# Altium integrated library PC817X2NIP0F.IntLib: 1 symbol
Pins are listed as number, name and electrical type; pins without a type are passive.

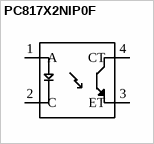
[diagram p0: symbol PC817X2NIP0F]

## PC817X2NIP0F
designator U?  (value not drawn)
PC817 Series 1 Channel 80 V 5000 Vrms General Purpose Photocoupler - DIP-4; MF: Sharp Microelectronics; Availability: Good; Price: 0.30 USD; Package: PDIP-4 Sharp Microelectronics; MP: PC817X2NIP0F; Value: *
footprint SOT254P975X400-4N
pins: 1 A, 2 C, 3 ET, 4 CT